# Altium footprint library Switch-Keyboard.PCBLIB: 10 footprints
Each footprint in its own frame and in the unit in brackets; x right, y up, seen from the top. Pads: shape width x height; smd on the part's side, far side on the other; paste and mask are expansions set on the pad; w line width, h text height; cw(c..) or ccw(c..) is an arc to the next point about the centre after c.
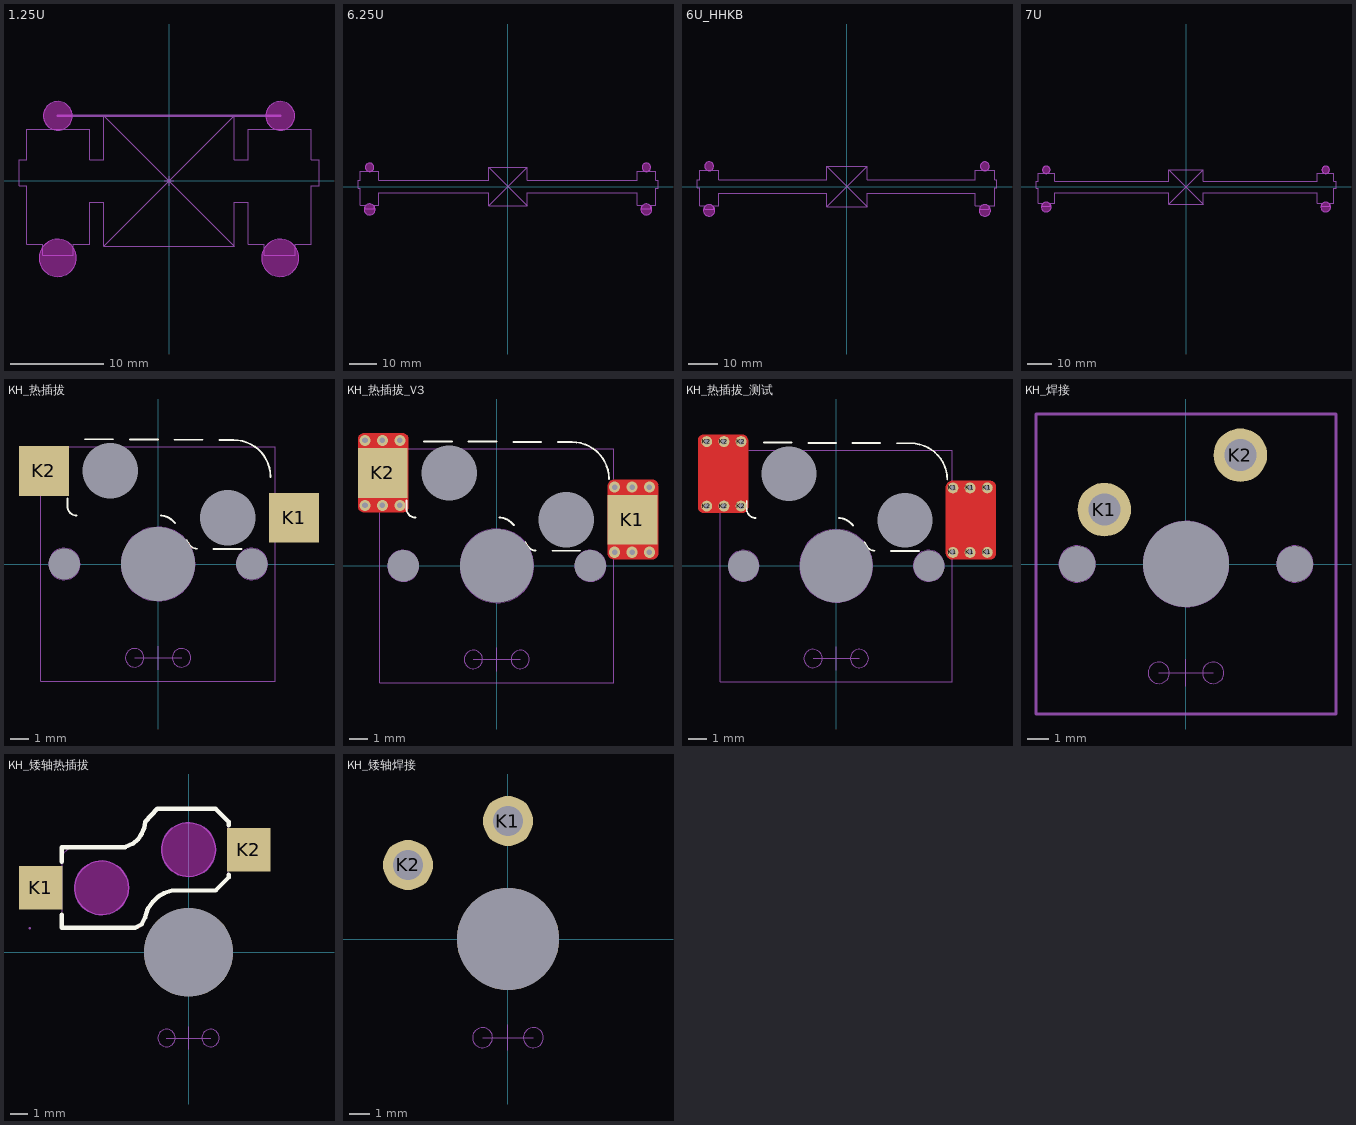
[diagram p0: the footprints below, top view; thin cyan lines are the x and y axes]

## 1.25U [mm] "1.25U 平衡杠"
Keep-Out Layer:
  board cut-out: 10.388,6.985 10.388,6.832 10.448,6.533 10.564,6.251 10.734,5.997 10.95,5.781 11.204,5.611 11.486,5.495 11.785,5.435 11.938,5.435 12.091,5.435 12.39,5.495 12.672,5.611 12.926,5.781 13.142,5.997 13.312,6.251 13.428,6.533 13.488,6.832 13.488,6.985 13.488,7.138 13.428,7.437 13.312,7.719 13.142,7.973 12.926,8.189 12.672,8.359 12.39,8.475 12.091,8.535 11.938,8.535 11.785,8.535 11.486,8.475 11.204,8.359 10.95,8.189 10.734,7.973 10.564,7.719 10.448,7.437 10.388,7.138
  board cut-out: 9.938,-8.255 9.938,-8.452 10.015,-8.838 10.166,-9.202 10.384,-9.53 10.663,-9.809 10.991,-10.027 11.355,-10.178 11.741,-10.255 11.938,-10.255 12.135,-10.255 12.521,-10.178 12.885,-10.027 13.213,-9.809 13.492,-9.53 13.71,-9.202 13.861,-8.838 13.938,-8.452 13.938,-8.255 13.938,-8.058 13.861,-7.672 13.71,-7.308 13.492,-6.98 13.213,-6.701 12.885,-6.483 12.521,-6.332 12.135,-6.255 11.938,-6.255 11.741,-6.255 11.355,-6.332 10.991,-6.483 10.663,-6.701 10.384,-6.98 10.166,-7.308 10.015,-7.672 9.938,-8.058
  board cut-out: -13.488,6.985 -13.488,6.832 -13.428,6.533 -13.312,6.251 -13.142,5.997 -12.926,5.781 -12.672,5.611 -12.39,5.495 -12.091,5.435 -11.938,5.435 -11.785,5.435 -11.486,5.495 -11.204,5.611 -10.95,5.781 -10.734,5.997 -10.564,6.251 -10.448,6.533 -10.388,6.832 -10.388,6.985 -10.388,7.138 -10.448,7.437 -10.564,7.719 -10.734,7.973 -10.95,8.189 -11.204,8.359 -11.486,8.475 -11.785,8.535 -11.938,8.535 -12.091,8.535 -12.39,8.475 -12.672,8.359 -12.926,8.189 -13.142,7.973 -13.312,7.719 -13.428,7.437 -13.488,7.138
  board cut-out: -13.938,-8.255 -13.938,-8.452 -13.861,-8.838 -13.71,-9.202 -13.491,-9.53 -13.213,-9.809 -12.885,-10.027 -12.521,-10.178 -12.135,-10.255 -11.938,-10.255 -11.741,-10.255 -11.355,-10.178 -10.991,-10.027 -10.663,-9.809 -10.384,-9.53 -10.166,-9.202 -10.015,-8.838 -9.938,-8.452 -9.938,-8.255 -9.938,-8.058 -10.015,-7.672 -10.166,-7.308 -10.384,-6.98 -10.663,-6.701 -10.991,-6.483 -11.355,-6.332 -11.741,-6.255 -11.938,-6.255 -12.135,-6.255 -12.521,-6.332 -12.885,-6.483 -13.213,-6.701 -13.491,-6.98 -13.71,-7.308 -13.861,-7.672 -13.938,-8.058
M1:
  circle w0.127: c11.938,-8.255 r2
  circle w0.127: c-11.938,-8.255 r2
  circle w0.127: c-11.938,6.985 r1.55
  circle w0.127: c11.938,6.985 r1.55
Top 元件外形:
  lines w0.127: -7,-7 7,6.999 ; -7,-7 7,-7 ; -7,-7 -7,-2.301 -8.525,-2.301 -8.525,-6.77 -10.251,-6.77 -10.251,-7.97 -13.55,-7.97 -13.55,-6.77 -15.275,-6.77 -15.275,-0.5 -16.1,-0.5 -16.1,2.3 -15.275,2.3 -15.275,5.529 -8.525,5.529 -8.525,2.3 -7,2.3 -7,6.999 ; -7,6.999 7,-7 ; -7,6.999 7,6.999 ; 7,-7 7,-2.301 8.525,-2.301 8.525,-6.77 10.251,-6.77 10.251,-7.97 13.55,-7.97 13.55,-6.77 15.275,-6.77 15.275,-0.5 16.1,-0.5 16.1,2.3 15.275,2.3 15.275,5.529 8.525,5.529 8.525,2.3 7,2.3 7,6.999
  lines w0.254: -11.938,6.985 11.938,6.985
Top 中心点:
  lines w0.127: -0.5,0 0.5,0 ; 0,-0.5 0,0.5

## 6.25U [mm] "6.25U 平衡杠"
Keep-Out Layer:
  board cut-out: 47.999,-8.255 47.999,-8.452 48.076,-8.838 48.227,-9.202 48.446,-9.53 48.724,-9.809 49.052,-10.027 49.416,-10.178 49.802,-10.255 49.999,-10.255 50.196,-10.255 50.583,-10.178 50.947,-10.027 51.274,-9.809 51.553,-9.53 51.772,-9.202 51.922,-8.838 51.999,-8.452 51.999,-8.255 51.999,-8.058 51.922,-7.672 51.772,-7.308 51.553,-6.98 51.274,-6.702 50.947,-6.483 50.583,-6.332 50.196,-6.255 49.999,-6.255 49.802,-6.255 49.416,-6.332 49.052,-6.483 48.724,-6.702 48.446,-6.98 48.227,-7.308 48.076,-7.672 47.999,-8.058
  board cut-out: 48.449,6.985 48.449,6.832 48.509,6.533 48.626,6.251 48.795,5.997 49.011,5.781 49.265,5.611 49.547,5.494 49.847,5.435 49.999,5.435 50.152,5.435 50.451,5.494 50.734,5.611 50.987,5.781 51.203,5.997 51.373,6.251 51.49,6.533 51.549,6.832 51.549,6.985 51.549,7.138 51.49,7.437 51.373,7.719 51.203,7.973 50.987,8.189 50.734,8.358 50.451,8.475 50.152,8.535 49.999,8.535 49.847,8.535 49.547,8.475 49.265,8.358 49.011,8.189 48.795,7.973 48.626,7.719 48.509,7.437 48.449,7.138
  board cut-out: -52,-8.255 -52,-8.452 -51.923,-8.838 -51.772,-9.202 -51.554,-9.53 -51.275,-9.809 -50.947,-10.027 -50.583,-10.178 -50.197,-10.255 -50,-10.255 -49.803,-10.255 -49.417,-10.178 -49.053,-10.027 -48.725,-9.809 -48.447,-9.53 -48.228,-9.202 -48.077,-8.838 -48,-8.452 -48,-8.255 -48,-8.058 -48.077,-7.672 -48.228,-7.308 -48.447,-6.98 -48.725,-6.702 -49.053,-6.483 -49.417,-6.332 -49.803,-6.255 -50,-6.255 -50.197,-6.255 -50.583,-6.332 -50.947,-6.483 -51.275,-6.702 -51.554,-6.98 -51.772,-7.308 -51.923,-7.672 -52,-8.058
  board cut-out: -51.55,6.985 -51.55,6.832 -51.49,6.533 -51.374,6.251 -51.204,5.997 -50.988,5.781 -50.734,5.611 -50.452,5.494 -50.153,5.435 -50,5.435 -49.847,5.435 -49.548,5.494 -49.266,5.611 -49.012,5.781 -48.796,5.997 -48.626,6.251 -48.51,6.533 -48.45,6.832 -48.45,6.985 -48.45,7.138 -48.51,7.437 -48.626,7.719 -48.796,7.973 -49.012,8.189 -49.266,8.358 -49.548,8.475 -49.847,8.535 -50,8.535 -50.153,8.535 -50.452,8.475 -50.734,8.358 -50.988,8.189 -51.204,7.973 -51.374,7.719 -51.49,7.437 -51.55,7.138
M1:
  circle w0.127: c49.999,-8.255 r2
  circle w0.127: c49.999,6.985 r1.55
  circle w0.127: c-50,-8.255 r2
  circle w0.127: c-50,6.985 r1.55
Top 元件外形:
  lines w0.127: -7,-7 7,7 ; 7,-7 -7,7 ; -7,7 -7,2.299 -46.625,2.299 -46.625,5.529 -53.375,5.529 -53.375,2.299 -54.2,2.299 -54.2,-0.5 -53.375,-0.5 -53.375,-6.77 -51.65,-6.77 -51.65,-7.97 -48.351,-7.97 -48.351,-6.77 -46.625,-6.77 -46.625,-2.301 -7,-2.301 -7,-7 7,-7 7,-2.301 46.625,-2.301 46.625,-6.77 48.349,-6.77 48.349,-7.97 51.649,-7.97 51.649,-6.77 53.374,-6.77 53.374,-0.5 54.2,-0.5 54.2,2.299 53.374,2.299 53.374,5.529 46.625,5.529 46.625,2.299 7,2.299 7,7 ; -7,7 7,7

## 6U_HHKB [mm] "6.25U 平衡杠"
Keep-Out Layer:
  board cut-out: -49.625,-8.255 -49.625,-8.452 -49.548,-8.838 -49.397,-9.202 -49.179,-9.53 -48.9,-9.809 -48.572,-10.027 -48.208,-10.178 -47.822,-10.255 -47.625,-10.255 -47.428,-10.255 -47.042,-10.178 -46.678,-10.027 -46.35,-9.809 -46.072,-9.53 -45.853,-9.202 -45.702,-8.838 -45.625,-8.452 -45.625,-8.255 -45.625,-8.058 -45.702,-7.672 -45.853,-7.308 -46.072,-6.98 -46.35,-6.702 -46.678,-6.483 -47.042,-6.332 -47.428,-6.255 -47.625,-6.255 -47.822,-6.255 -48.208,-6.332 -48.572,-6.483 -48.9,-6.702 -49.179,-6.98 -49.397,-7.308 -49.548,-7.672 -49.625,-8.058
  board cut-out: -49.175,6.985 -49.175,6.832 -49.115,6.533 -48.999,6.251 -48.829,5.997 -48.613,5.781 -48.359,5.611 -48.077,5.494 -47.778,5.435 -47.625,5.435 -47.472,5.435 -47.173,5.494 -46.891,5.611 -46.637,5.781 -46.421,5.997 -46.251,6.251 -46.135,6.533 -46.075,6.832 -46.075,6.985 -46.075,7.138 -46.135,7.437 -46.251,7.719 -46.421,7.973 -46.637,8.189 -46.891,8.358 -47.173,8.475 -47.472,8.535 -47.625,8.535 -47.778,8.535 -48.077,8.475 -48.359,8.358 -48.613,8.189 -48.829,7.973 -48.999,7.719 -49.115,7.437 -49.175,7.138
  board cut-out: 45.625,-8.255 45.625,-8.452 45.702,-8.838 45.853,-9.202 46.071,-9.53 46.35,-9.809 46.678,-10.027 47.042,-10.178 47.428,-10.255 47.625,-10.255 47.822,-10.255 48.208,-10.178 48.572,-10.027 48.9,-9.809 49.178,-9.53 49.397,-9.202 49.548,-8.838 49.625,-8.452 49.625,-8.255 49.625,-8.058 49.548,-7.672 49.397,-7.308 49.178,-6.98 48.9,-6.702 48.572,-6.483 48.208,-6.332 47.822,-6.255 47.625,-6.255 47.428,-6.255 47.042,-6.332 46.678,-6.483 46.35,-6.702 46.071,-6.98 45.853,-7.308 45.702,-7.672 45.625,-8.058
  board cut-out: 46.075,6.985 46.075,6.832 46.135,6.533 46.251,6.251 46.421,5.997 46.637,5.781 46.891,5.611 47.173,5.494 47.472,5.435 47.625,5.435 47.778,5.435 48.077,5.494 48.359,5.611 48.613,5.781 48.829,5.997 48.999,6.251 49.115,6.533 49.175,6.832 49.175,6.985 49.175,7.138 49.115,7.437 48.999,7.719 48.829,7.973 48.613,8.189 48.359,8.358 48.077,8.475 47.778,8.535 47.625,8.535 47.472,8.535 47.173,8.475 46.891,8.358 46.637,8.189 46.421,7.973 46.251,7.719 46.135,7.437 46.075,7.138
M1:
  circle w0.051: c47.625,-8.255 r2
  circle w0.051: c47.625,6.985 r1.55
  circle w0.051: c-47.625,-8.255 r2
  circle w0.051: c-47.625,6.985 r1.55
Top 元件外形:
  lines w0.051: -7,-7 7,7 ; -7,-7 7,-7 ; -7,-7 -7,-2.3 -44.298,-2.3 -44.298,-6.604 -46.101,-6.604 -46.101,-7.773 -49.149,-7.773 -49.149,-6.604 -50.952,-6.604 -50.952,-0.508 -51.816,-0.508 -51.816,2.286 -50.952,2.286 -50.952,5.689 -44.298,5.689 -44.298,2.3 -7,2.3 -7,7 ; -7,7 7,-7 ; -7,7 7,7 ; 7,-7 7,-2.3 44.298,-2.3 44.298,-6.604 46.101,-6.604 46.101,-7.773 49.149,-7.773 49.149,-6.604 50.952,-6.604 50.952,-0.508 51.816,-0.508 51.816,2.286 50.952,2.286 50.952,5.689 44.298,5.689 44.298,2.3 7,2.3 7,7

## 7U [mm] "7U 平衡杠"
Keep-Out Layer:
  board cut-out: -59.15,-8.255 -59.15,-8.452 -59.073,-8.838 -58.922,-9.202 -58.703,-9.53 -58.425,-9.809 -58.097,-10.027 -57.733,-10.178 -57.347,-10.255 -57.15,-10.255 -56.953,-10.255 -56.567,-10.178 -56.203,-10.027 -55.875,-9.809 -55.596,-9.53 -55.378,-9.202 -55.227,-8.838 -55.15,-8.452 -55.15,-8.255 -55.15,-8.058 -55.227,-7.672 -55.378,-7.308 -55.596,-6.98 -55.875,-6.701 -56.203,-6.483 -56.567,-6.332 -56.953,-6.255 -57.15,-6.255 -57.347,-6.255 -57.733,-6.332 -58.097,-6.483 -58.425,-6.701 -58.703,-6.98 -58.922,-7.308 -59.073,-7.672 -59.15,-8.058
  board cut-out: -58.7,6.985 -58.7,6.832 -58.64,6.533 -58.524,6.251 -58.354,5.997 -58.138,5.781 -57.884,5.611 -57.602,5.495 -57.303,5.435 -57.15,5.435 -56.997,5.435 -56.698,5.495 -56.416,5.611 -56.162,5.781 -55.946,5.997 -55.776,6.251 -55.66,6.533 -55.6,6.832 -55.6,6.985 -55.6,7.138 -55.66,7.437 -55.776,7.719 -55.946,7.973 -56.162,8.189 -56.416,8.359 -56.698,8.475 -56.997,8.535 -57.15,8.535 -57.303,8.535 -57.602,8.475 -57.884,8.359 -58.138,8.189 -58.354,7.973 -58.524,7.719 -58.64,7.437 -58.7,7.138
  board cut-out: 55.15,-8.255 55.15,-8.452 55.227,-8.838 55.378,-9.202 55.596,-9.53 55.875,-9.809 56.203,-10.027 56.567,-10.178 56.953,-10.255 57.15,-10.255 57.347,-10.255 57.733,-10.178 58.097,-10.027 58.425,-9.809 58.704,-9.53 58.922,-9.202 59.073,-8.838 59.15,-8.452 59.15,-8.255 59.15,-8.058 59.073,-7.672 58.922,-7.308 58.704,-6.98 58.425,-6.701 58.097,-6.483 57.733,-6.332 57.347,-6.255 57.15,-6.255 56.953,-6.255 56.567,-6.332 56.203,-6.483 55.875,-6.701 55.596,-6.98 55.378,-7.308 55.227,-7.672 55.15,-8.058
  board cut-out: 55.6,6.985 55.6,6.832 55.66,6.533 55.776,6.251 55.946,5.997 56.162,5.781 56.416,5.611 56.698,5.495 56.997,5.435 57.15,5.435 57.303,5.435 57.602,5.495 57.884,5.611 58.138,5.781 58.354,5.997 58.524,6.251 58.64,6.533 58.7,6.832 58.7,6.985 58.7,7.138 58.64,7.437 58.524,7.719 58.354,7.973 58.138,8.189 57.884,8.359 57.602,8.475 57.303,8.535 57.15,8.535 56.997,8.535 56.698,8.475 56.416,8.359 56.162,8.189 55.946,7.973 55.776,7.719 55.66,7.437 55.6,7.138
M1:
  circle w0.127: c57.15,6.985 r1.55
  circle w0.127: c57.15,-8.255 r2
  circle w0.127: c-57.15,6.985 r1.55
  circle w0.127: c-57.15,-8.255 r2
Top 元件外形:
  lines w0.127: -7,-6.999 7,7 ; 7,-6.999 -7,7 ; -7,7 7,7 ; -7,7 -7,2.299 -53.774,2.299 -53.774,5.529 -60.525,5.529 -60.525,2.299 -61.351,2.299 -61.351,-0.5 -60.525,-0.5 -60.525,-6.77 -58.8,-6.77 -58.8,-7.97 -55.501,-7.97 -55.501,-6.77 -53.774,-6.77 -53.774,-2.301 -7,-2.301 -7,-7 7,-7 7,-2.301 53.775,-2.301 53.775,-6.77 55.5,-6.77 55.5,-7.97 58.8,-7.97 58.8,-6.77 60.526,-6.77 60.526,-0.5 61.35,-0.5 61.35,2.299 60.526,2.299 60.526,5.529 53.775,5.529 53.775,2.299 7,2.299 7,7

## KH_热插拔 [mm] "KH_热插拔轴座"
pads (7):
  rect 2.7x2.7 smd: K1(7.366,2.504) K2(-6.184,5.044)
  round 0 hole 1.7 unplated mask+0: ""(-5.08,0) ""(5.08,0)
  round 0 hole 3 unplated: ""(-2.584,5.044) ""(3.766,2.504)
  round 0 hole 4 unplated mask+0: ""(0,0)
Top Overlay:
  lines w0.1: -4.909,3.556 -4.909,3.119 ccw(c-4.409,3.119) -4.409,2.619 ; -3.962,6.756 -2.438,6.756 ; -1.536,6.743 -0.012,6.743 ; 0.156,2.619 cw(c0.156,1.785) 0.175,2.618 cw(c0.156,1.794) 0.199,2.617 cw(c0.157,1.81) 0.329,2.6 cw(c0.155,1.803) 0.359,2.593 cw(c0.153,1.795) 0.381,2.587 cw(c0.151,1.787) 0.399,2.581 cw(c0.148,1.778) 0.415,2.576 0.428,2.572 0.442,2.567 0.453,2.562 0.465,2.558 0.476,2.553 0.486,2.549 0.495,2.545 0.505,2.541 0.514,2.536 0.524,2.532 0.533,2.527 0.542,2.522 0.55,2.518 0.557,2.515 0.564,2.511 0.572,2.506 0.579,2.502 0.586,2.498 0.593,2.494 0.601,2.49 0.608,2.485 0.615,2.481 0.622,2.476 0.629,2.472 0.636,2.467 0.643,2.462 0.65,2.458 0.657,2.453 0.664,2.448 0.671,2.443 0.678,2.438 0.683,2.434 0.689,2.431 0.694,2.427 0.699,2.423 0.704,2.419 0.709,2.415 0.714,2.411 0.719,2.407 0.725,2.403 0.73,2.399 0.735,2.395 0.74,2.391 0.745,2.387 0.75,2.382 0.755,2.378 0.76,2.374 0.765,2.37 0.77,2.365 0.775,2.361 0.78,2.357 0.785,2.352 0.79,2.348 0.795,2.343 0.8,2.339 0.804,2.334 0.809,2.33 0.814,2.325 0.819,2.321 0.824,2.316 0.829,2.312 0.834,2.307 0.838,2.302 0.843,2.297 0.848,2.293 0.853,2.288 0.858,2.283 0.862,2.278 0.867,2.274 0.872,2.269 0.877,2.264 0.881,2.259 0.886,2.254 0.891,2.249 0.895,2.244 0.9,2.239 0.905,2.234 0.909,2.229 0.914,2.224 0.919,2.219 0.923,2.214 0.928,2.208 ; 0.889,6.731 2.413,6.731 ; 1.545,1.285 1.546,1.283 ; 1.554,1.271 1.555,1.269 ; 1.559,1.263 1.56,1.261 ; 1.566,1.251 1.567,1.249 ; 1.573,1.239 1.574,1.237 ; 1.597,1.199 1.598,1.197 ; 1.623,1.158 1.625,1.155 ; 1.639,1.132 1.642,1.128 ; 1.651,1.113 1.654,1.109 ; 1.671,1.082 1.673,1.079 ; 1.689,1.055 ccw(c2.107,1.329) 2.107,0.829 ; 3.008,0.816 4.532,0.816 ; 3.314,6.719 4.091,6.719 cw(c4.091,4.719) 6.091,4.719
Bottom Overlay:
  lines w0.127: -7,-7 -7,7 7,7 7,-7 -7,-7
Top 元件外形:
  circle w0.013: c5.08,0 r0.85
  circle w0.013: c-5.08,0 r0.85
  circle w0.013: c-2.54,5.08 r0.75
  circle w0.013: c0,0 r2
  circle w0.013: c3.81,2.54 r0.75
  lines w0.013: -6.35,-6.35 6.35,-6.35 6.35,6.35 -6.35,6.35 -6.35,-6.35
Bottom 中心点:
  circle w0.013: c1.27,-5.08 r0.5
  circle w0.013: c-1.27,-5.08 r0.5
  lines w0.013: -1.27,-5.08 1.27,-5.08 ; 0,-5.715 0,-4.445
3D body "Kailh Hotswap.step": height 3, standoff -0.05, extent -6.65,0.91 7.85,6.8
3D body "凯?": height 15.75, standoff -3.45, extent -7.8,-7.8 7.8,7.8

## KH_热插拔_V3 [mm] "KH_热插拔轴座"
pads (7):
  rect 2.7x2.7 smd: K1(7.366,2.504) K2(-6.184,5.044)
  round 0 hole 1.7 unplated mask+0: ""(-5.08,0) ""(5.08,0)
  round 0 hole 3 unplated: ""(-2.584,5.044) ""(3.766,2.504)
  round 0 hole 4 unplated mask+0: ""(0,0)
via -7.154,3.277 diameter 0.6 hole 0.3
via -6.21,3.277 diameter 0.6 hole 0.3
via -5.266,3.277 diameter 0.6 hole 0.3
via -5.266,6.81 diameter 0.6 hole 0.3
via -6.21,6.81 diameter 0.6 hole 0.3
via -7.154,6.81 diameter 0.6 hole 0.3
via 6.396,0.737 diameter 0.6 hole 0.3
via 7.34,0.737 diameter 0.6 hole 0.3
via 8.284,0.737 diameter 0.6 hole 0.3
via 8.284,4.27 diameter 0.6 hole 0.3
via 7.34,4.27 diameter 0.6 hole 0.3
via 6.396,4.27 diameter 0.6 hole 0.3
Top:
  region: -7.534,6.866 -7.534,6.932 -7.484,7.055 -7.389,7.149 -7.267,7.2 -7.2,7.2 -5.1,7.2 -5.04,7.2 -4.93,7.154 -4.846,7.07 -4.8,6.96 -4.8,6.9 -4.8,3.2 -4.8,3.14 -4.846,3.03 -4.93,2.946 -5.04,2.9 -5.1,2.9 -7.2,2.9 -7.267,2.9 -7.389,2.951 -7.484,3.045 -7.534,3.168 -7.534,3.234
  region: 6.016,4.326 6.016,4.392 6.066,4.515 6.161,4.609 6.283,4.66 6.35,4.66 8.45,4.66 8.51,4.66 8.62,4.614 8.704,4.53 8.75,4.42 8.75,4.36 8.75,0.66 8.75,0.6 8.704,0.49 8.62,0.406 8.51,0.36 8.45,0.36 6.35,0.36 6.283,0.36 6.161,0.411 6.066,0.505 6.016,0.628 6.016,0.694
Top Overlay:
  lines w0.1: -4.909,3.556 -4.909,3.119 ccw(c-4.409,3.119) -4.409,2.619 ; -3.962,6.756 -2.438,6.756 ; -1.536,6.743 -0.012,6.743 ; 0.156,2.619 cw(c0.156,1.785) 0.175,2.618 cw(c0.156,1.794) 0.199,2.617 cw(c0.157,1.81) 0.329,2.6 cw(c0.155,1.803) 0.359,2.593 cw(c0.153,1.795) 0.381,2.587 cw(c0.151,1.787) 0.399,2.581 cw(c0.148,1.778) 0.415,2.576 0.428,2.572 0.442,2.567 0.453,2.562 0.465,2.558 0.476,2.553 0.486,2.549 0.495,2.545 0.505,2.541 0.514,2.536 0.524,2.532 0.533,2.527 0.542,2.522 0.55,2.518 0.557,2.515 0.564,2.511 0.572,2.506 0.579,2.502 0.586,2.498 0.593,2.494 0.601,2.49 0.608,2.485 0.615,2.481 0.622,2.476 0.629,2.472 0.636,2.467 0.643,2.462 0.65,2.458 0.657,2.453 0.664,2.448 0.671,2.443 0.678,2.438 0.683,2.434 0.689,2.431 0.694,2.427 0.699,2.423 0.704,2.419 0.709,2.415 0.714,2.411 0.719,2.407 0.725,2.403 0.73,2.399 0.735,2.395 0.74,2.391 0.745,2.387 0.75,2.382 0.755,2.378 0.76,2.374 0.765,2.37 0.77,2.365 0.775,2.361 0.78,2.357 0.785,2.352 0.79,2.348 0.795,2.343 0.8,2.339 0.804,2.334 0.809,2.33 0.814,2.325 0.819,2.321 0.824,2.316 0.829,2.312 0.834,2.307 0.838,2.302 0.843,2.297 0.848,2.293 0.853,2.288 0.858,2.283 0.862,2.278 0.867,2.274 0.872,2.269 0.877,2.264 0.881,2.259 0.886,2.254 0.891,2.249 0.895,2.244 0.9,2.239 0.905,2.234 0.909,2.229 0.914,2.224 0.919,2.219 0.923,2.214 0.928,2.208 ; 0.889,6.731 2.413,6.731 ; 1.545,1.285 1.546,1.283 ; 1.554,1.271 1.555,1.269 ; 1.559,1.263 1.56,1.261 ; 1.566,1.251 1.567,1.249 ; 1.573,1.239 1.574,1.237 ; 1.597,1.199 1.598,1.197 ; 1.623,1.158 1.625,1.155 ; 1.639,1.132 1.642,1.128 ; 1.651,1.113 1.654,1.109 ; 1.671,1.082 1.673,1.079 ; 1.689,1.055 ccw(c2.107,1.329) 2.107,0.829 ; 3.008,0.816 4.532,0.816 ; 3.314,6.719 4.091,6.719 cw(c4.091,4.719) 6.091,4.719
Bottom Overlay:
  lines w0.127: -7,-7 -7,7 7,7 7,-7 -7,-7
Top 元件外形:
  circle w0.013: c5.08,0 r0.85
  circle w0.013: c-5.08,0 r0.85
  circle w0.013: c-2.54,5.08 r0.75
  circle w0.013: c0,0 r2
  circle w0.013: c3.81,2.54 r0.75
  lines w0.013: -6.35,-6.35 6.35,-6.35 6.35,6.35 -6.35,6.35 -6.35,-6.35
Bottom 中心点:
  circle w0.013: c1.27,-5.08 r0.5
  circle w0.013: c-1.27,-5.08 r0.5
  lines w0.013: -1.27,-5.08 1.27,-5.08 ; 0,-5.715 0,-4.445
3D body "凯?": height 15.75, standoff -3.45, extent -7.8,-7.8 7.8,7.8
3D body "Kailh Hotswap.step": height 3, standoff -0.05, extent -6.694,0.874 7.806,6.764

## KH_热插拔_测试 [mm] "KH_热插拔轴座"
pads (19):
  round 0.6 hole 0.3 mask+0.102: K1(6.396,0.737) K1(6.396,4.27) K1(7.34,0.737) K1(7.34,4.27) K1(8.284,0.737) K1(8.284,4.27) K2(-7.103,6.81) K2(-6.159,3.277) K2(-6.159,6.81) K2(-5.214,3.277) K2(-5.214,6.81)
  round 0.025 smd mask-2539.97: K1(7.366,2.504) K2(-6.184,5.044)
  round 0.6 hole 0.3 paste-2539.97 mask+0.102: K2(-7.103,3.277)
  round 0 hole 1.7 unplated mask+0: ""(-5.08,0) ""(5.08,0)
  round 0 hole 3 unplated: ""(-2.584,5.044) ""(3.766,2.504)
  round 0 hole 4 unplated mask+0: ""(0,0)
Top:
  region: -4.834,6.866 -4.834,6.899 -4.847,6.963 -4.873,7.024 -4.909,7.079 -4.956,7.125 -5.01,7.162 -5.071,7.187 -5.136,7.2 -5.169,7.2 -7.269,7.2 -7.298,7.2 -7.356,7.188 -7.411,7.166 -7.46,7.133 -7.502,7.091 -7.535,7.042 -7.557,6.988 -7.569,6.93 -7.569,6.9 -7.569,3.2 -7.569,3.17 -7.557,3.112 -7.535,3.058 -7.502,3.009 -7.46,2.967 -7.411,2.934 -7.356,2.912 -7.298,2.9 -7.269,2.9 -5.169,2.9 -5.136,2.9 -5.071,2.913 -5.01,2.938 -4.956,2.975 -4.909,3.021 -4.873,3.076 -4.847,3.137 -4.834,3.202 -4.834,3.234
  region: 6.016,4.326 6.016,4.359 6.028,4.423 6.054,4.484 6.09,4.539 6.137,4.585 6.192,4.622 6.252,4.647 6.317,4.66 6.35,4.66 8.45,4.66 8.48,4.66 8.538,4.648 8.592,4.626 8.641,4.593 8.683,4.551 8.716,4.502 8.738,4.448 8.75,4.39 8.75,4.36 8.75,0.66 8.75,0.63 8.738,0.572 8.716,0.518 8.683,0.469 8.641,0.427 8.592,0.394 8.538,0.372 8.48,0.36 8.45,0.36 6.35,0.36 6.317,0.36 6.252,0.373 6.192,0.398 6.137,0.435 6.09,0.481 6.054,0.536 6.028,0.597 6.016,0.662 6.016,0.694
Top Overlay:
  lines w0.1: -4.909,3.556 -4.909,3.119 ccw(c-4.409,3.119) -4.409,2.619 ; -3.962,6.756 -2.438,6.756 ; -1.536,6.743 -0.012,6.743 ; 0.156,2.619 cw(c0.156,1.785) 0.175,2.618 cw(c0.156,1.794) 0.199,2.617 cw(c0.157,1.81) 0.329,2.6 cw(c0.155,1.803) 0.359,2.593 cw(c0.153,1.795) 0.381,2.587 cw(c0.151,1.787) 0.399,2.581 cw(c0.148,1.778) 0.415,2.576 0.428,2.572 0.442,2.567 0.453,2.562 0.465,2.558 0.476,2.553 0.486,2.549 0.495,2.545 0.505,2.541 0.514,2.536 0.524,2.532 0.533,2.527 0.542,2.522 0.55,2.518 0.557,2.515 0.564,2.511 0.572,2.506 0.579,2.502 0.586,2.498 0.593,2.494 0.601,2.49 0.608,2.485 0.615,2.481 0.622,2.476 0.629,2.472 0.636,2.467 0.643,2.462 0.65,2.458 0.657,2.453 0.664,2.448 0.671,2.443 0.678,2.438 0.683,2.434 0.689,2.431 0.694,2.427 0.699,2.423 0.704,2.419 0.709,2.415 0.714,2.411 0.719,2.407 0.725,2.403 0.73,2.399 0.735,2.395 0.74,2.391 0.745,2.387 0.75,2.382 0.755,2.378 0.76,2.374 0.765,2.37 0.77,2.365 0.775,2.361 0.78,2.357 0.785,2.352 0.79,2.348 0.795,2.343 0.8,2.339 0.804,2.334 0.809,2.33 0.814,2.325 0.819,2.321 0.824,2.316 0.829,2.312 0.834,2.307 0.838,2.302 0.843,2.297 0.848,2.293 0.853,2.288 0.858,2.283 0.862,2.278 0.867,2.274 0.872,2.269 0.877,2.264 0.881,2.259 0.886,2.254 0.891,2.249 0.895,2.244 0.9,2.239 0.905,2.234 0.909,2.229 0.914,2.224 0.919,2.219 0.923,2.214 0.928,2.208 ; 0.889,6.731 2.413,6.731 ; 1.545,1.285 1.546,1.283 ; 1.554,1.271 1.555,1.269 ; 1.559,1.263 1.56,1.261 ; 1.566,1.251 1.567,1.249 ; 1.573,1.239 1.574,1.237 ; 1.597,1.199 1.598,1.197 ; 1.623,1.158 1.625,1.155 ; 1.639,1.132 1.642,1.128 ; 1.651,1.113 1.654,1.109 ; 1.671,1.082 1.673,1.079 ; 1.689,1.055 ccw(c2.107,1.329) 2.107,0.829 ; 3.008,0.816 4.532,0.816 ; 3.314,6.719 4.091,6.719 cw(c4.091,4.719) 6.091,4.719
Bottom Overlay:
  lines w0.127: -7,-7 7,-7 7,7 -7,7 -7,-7
Top Solder:
  region: -4.734,3.594 -4.734,6.494 -7.634,6.494 -7.634,3.594
  region: 5.916,1.054 5.916,3.954 8.816,3.954 8.816,1.054
Top 元件外形:
  circle w0.013: c3.81,2.54 r0.75
  circle w0.013: c0,0 r2
  circle w0.013: c-2.54,5.08 r0.75
  circle w0.013: c-5.08,0 r0.85
  circle w0.013: c5.08,0 r0.85
  lines w0.013: -6.35,-6.35 -6.35,6.35 6.35,6.35 6.35,-6.35 -6.35,-6.35
Bottom 中心点:
  circle w0.013: c-1.27,-5.08 r0.5
  circle w0.013: c1.27,-5.08 r0.5
  lines w0.013: -1.27,-5.08 1.27,-5.08 ; 0,-5.715 0,-4.445
3D body "凯?": height 15.75, standoff -3.45, extent -7.8,-7.8 7.8,7.8
3D body "Kailh Hotswap.step": height 3, standoff -0.05, extent -6.694,0.874 7.806,6.764

## KH_焊接 [mm] "KH_焊接轴"
pads (5):
  round 2.5 hole 1.5 mask+0: K1(-3.81,2.54) K2(2.54,5.08)
  round 0 hole 1.7 unplated mask+0: ""(-5.08,0) ""(5.08,0)
  round 0 hole 4 unplated mask+0: ""(0,0)
M4:
  circle w0.013: c-3.81,2.54 r0.75
  circle w0.013: c0,0 r2
  circle w0.013: c2.54,5.08 r0.75
  circle w0.013: c1.27,-5.08 r0.5
  circle w0.013: c5.08,0 r0.85
  circle w0.013: c-5.08,0 r0.85
  circle w0.013: c-1.27,-5.08 r0.5
  lines w0.013: -1.27,-5.08 1.27,-5.08 ; 0,-5.715 0,-4.445
  lines w0.127: -7,-7 7,-7 7,7 -7,7 -7,-7
Top 中心点:
  lines w0.051: -0.5,0 0.5,0 ; 0,-0.5 0,0.5
3D body "凯?": height 3.45, standoff -15.75, extent -7.8,-7.8 7.8,7.8

## KH_矮轴热插拔 [mm] "KH_矮轴热插拔"
pads (3):
  rect 2.5x2.5 smd: K1(-8.5,3.7) K2(3.45,5.9)
  round 5.1 hole 5.1 unplated mask+0: ""(0,0)
Top Overlay:
  lines w0.254: -7.301,2.151 -7.301,1.399 -3.099,1.399 -2.7,1.6 -2.5,2 -2.35,2.5 -2.05,2.9 -1.75,3.2 -1.4,3.4 -0.951,3.55 1.551,3.55 2.301,4.3 2.301,4.449 ; -7.3,5.199 -7.3,6.05 -4.201,6.05 -3.649,6.05 -3.199,6.25 -2.899,6.5 -2.699,6.8 -2.549,7.15 -2.499,7.5 -1.798,8.249 1.552,8.249 2.301,7.5 2.301,7.3
Bottom Overlay:
  lines w0.254: -7.5,-7.5 7.5,-7.5 7.5,7.5 -7.5,7.5 -7.5,-7.5
Keep-Out Layer:
  board cut-out: 0,4.35 -0.153,4.35 -0.452,4.41 -0.734,4.526 -0.988,4.696 -1.204,4.912 -1.374,5.166 -1.49,5.448 -1.55,5.747 -1.55,5.9 -1.55,6.053 -1.49,6.352 -1.374,6.634 -1.204,6.888 -0.988,7.104 -0.734,7.274 -0.452,7.39 -0.153,7.45 0,7.45 0.153,7.45 0.452,7.39 0.734,7.274 0.988,7.104 1.204,6.888 1.374,6.634 1.49,6.352 1.55,6.053 1.55,5.9 1.55,5.747 1.49,5.448 1.374,5.166 1.204,4.912 0.988,4.696 0.734,4.526 0.452,4.41 0.153,4.35
  board cut-out: -5,2.15 -5.153,2.15 -5.452,2.21 -5.734,2.326 -5.988,2.496 -6.204,2.712 -6.374,2.966 -6.49,3.248 -6.55,3.547 -6.55,3.7 -6.55,3.853 -6.49,4.152 -6.374,4.434 -6.204,4.688 -5.988,4.904 -5.734,5.074 -5.452,5.19 -5.153,5.25 -5,5.25 -4.847,5.25 -4.548,5.19 -4.266,5.074 -4.012,4.904 -3.796,4.688 -3.626,4.434 -3.51,4.152 -3.45,3.853 -3.45,3.7 -3.45,3.547 -3.51,3.248 -3.626,2.966 -3.796,2.712 -4.012,2.496 -4.266,2.326 -4.548,2.21 -4.847,2.15
M1:
  circle w0.076: c0,5.9 r1.55
  circle w0.076: c-5,3.7 r1.55
M4:
  circle w0.013: c-1.27,-4.93 r0.5
  circle w0.013: c1.27,-4.93 r0.5
  lines w0.013: -1.27,-4.93 1.27,-4.93 ; 0,-5.565 0,-4.295
Top 元件外形:
  region: -9.065,1.375 -9.066,1.399 -9.101,1.432 -9.149,1.432 -9.184,1.399 -9.185,1.375 -9.184,1.351 -9.149,1.318 -9.101,1.318 -9.066,1.351 -9.065,1.375
  region: -9.05,2.825 -7.25,2.825 -7.25,4.575 -9.05,4.575
  region: 2.25,5.025 4.05,5.025 4.05,6.775 2.25,6.775
  lines w0.051: -2.5,2.075 cw(c-0.563,1.576) -0.5,3.575 1.575,3.575 2.275,4.275 2.275,7.525 1.575,8.225 -1.8,8.225 -2.5,7.525 cw(c-4,7.525) -4,6.025 -6.575,6.025 ccw(c-6.575,5.325) -7.275,5.325 -7.275,1.375 -3.2,1.375 ccw(c-3.2,2.075) -2.5,2.075
3D body "PG1350-socket.STEP": height 0.25, standoff -2.84, extent -8.863,1.397 4.037,8.247

## KH_矮轴焊接 [mm] "KH_矮轴焊接"
pads (3):
  round 2.5 hole 1.5 mask+0: K1(0,5.9) K2(-5,3.7)
  round 5.1 hole 5.1 unplated mask+0: ""(0,0)
Bottom Overlay:
  lines w0.254: -7.5,-7.5 -7.5,7.5 7.5,7.5 7.5,-7.5 -7.5,-7.5
M4:
  circle w0.013: c1.27,-4.93 r0.5
  circle w0.013: c-1.27,-4.93 r0.5
  lines w0.013: -1.27,-4.93 1.27,-4.93 ; 0,-5.565 0,-4.295